# Altium footprint library CeleronLib_Connect.PcbLib: 219 footprints (part 13 of 14)
Each footprint in its own frame and in the unit in brackets; x right, y up, seen from the top. Pads: shape width x height; smd on the part's side, far side on the other; paste and mask are expansions set on the pad; w line width, h text height; cw(c..) or ccw(c..) is an arc to the next point about the centre after c.
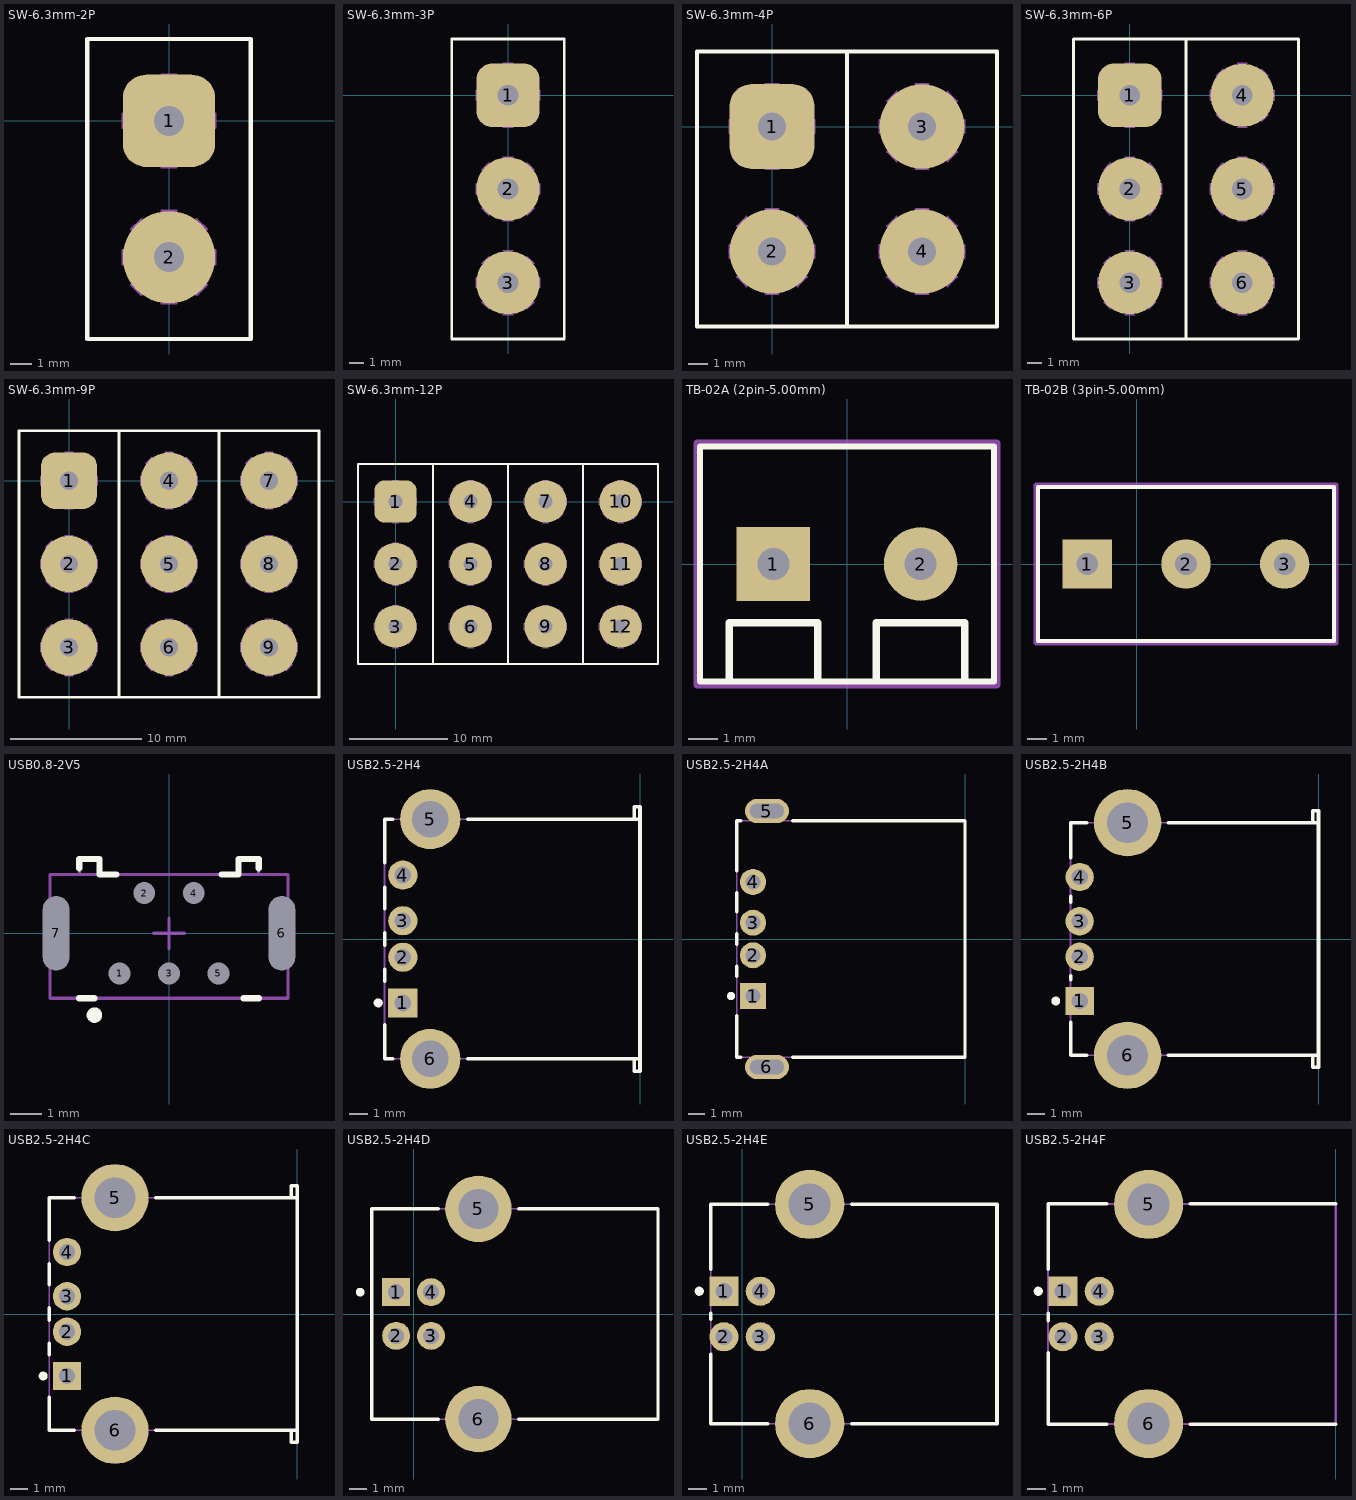
[diagram p12: the footprints below, top view; thin cyan lines are the x and y axes]

## SW-6.3mm-2P [mm] "2.8mm FASTON Tab For PC Board (1.4mm hole)"
height 8.6
pads (2):
  rrect50% 4.3x4.3 hole 1.4 mask-0.7: 1(0,0)
  round 4.3 hole 1.4 mask-0.7: 2(0,-6.35)
Top Overlay:
  lines w0.2: -3.81,-10.16 3.81,-10.16 3.81,3.81 -3.81,3.81 -3.81,-10.16
Top Assy:
  lines w0.1: -1.767,-1.286 -1.286,-1.767 ; -1.767,-7.636 -1.286,-8.117 ; -1.767,-5.064 -1.286,-4.582 ; -1.767,1.286 -1.286,1.767 ; -0.34,-8.509 0.34,-8.509 ; -0.34,-4.191 0.34,-4.191 ; -0.34,-2.159 0.34,-2.159 ; -0.34,2.159 0.34,2.159 ; 1.286,-8.117 1.767,-7.636 ; 1.286,-4.583 1.767,-5.064 ; 1.286,-1.767 1.767,-1.286 ; 1.286,1.767 1.767,1.286 ; -2.159,-6.69 2.159,-6.69 2.159,-6.009 -2.159,-6.009 -2.159,-6.69 ; -2.159,-0.34 -2.159,0.34 2.159,0.34 2.159,-0.34 -2.159,-0.34
3D body: height 8.64, standoff -3.81, extent -2.159,-6.69 2.159,-6.01
3D body: height 8.64, standoff -3.81, extent -2.159,-0.34 2.159,0.34

## SW-6.3mm-3P [mm] "2.8mm FASTON Tab For PC Board (1.4mm hole)"
height 8.6
pads (3):
  rrect50% 4.3x4.3 hole 1.4 mask-0.7: 1(0,0)
  round 4.3 hole 1.4 mask-0.7: 2(0,-6.35) 3(0,-12.7)
Top Overlay:
  lines w0.2: -3.81,-16.51 3.81,-16.51 3.81,3.81 -3.81,3.81 -3.81,-16.51
Top Assy:
  lines w0.1: -1.767,-13.986 -1.286,-14.467 ; -1.767,-1.286 -1.286,-1.767 ; -1.767,-11.414 -1.286,-10.933 ; -1.767,-7.636 -1.286,-8.117 ; -1.767,-5.064 -1.286,-4.582 ; -1.767,1.286 -1.286,1.767 ; -0.34,-14.859 0.34,-14.859 ; -0.34,-10.541 0.34,-10.541 ; -0.34,-8.509 0.34,-8.509 ; -0.34,-4.191 0.34,-4.191 ; -0.34,-2.159 0.34,-2.159 ; -0.34,2.159 0.34,2.159 ; 1.286,-14.467 1.767,-13.986 ; 1.286,-10.933 1.767,-11.414 ; 1.286,-8.117 1.767,-7.636 ; 1.286,-4.583 1.767,-5.064 ; 1.286,-1.767 1.767,-1.286 ; 1.286,1.767 1.767,1.286 ; -2.159,-13.04 -2.159,-12.36 2.159,-12.36 2.159,-13.04 -2.159,-13.04 ; -2.159,-6.69 2.159,-6.69 2.159,-6.009 -2.159,-6.009 -2.159,-6.69 ; -2.159,-0.34 -2.159,0.34 2.159,0.34 2.159,-0.34 -2.159,-0.34
3D body: height 8.64, standoff -3.81, extent -2.159,-6.69 2.159,-6.01
3D body: height 8.64, standoff -3.81, extent -2.159,-0.34 2.159,0.34
3D body: height 8.64, standoff -3.81, extent -2.159,-13.04 2.159,-12.36

## SW-6.3mm-4P [mm] "2.8mm FASTON Tab For PC Board (1.4mm hole)"
height 8.6
pads (4):
  rrect50% 4.3x4.3 hole 1.4 mask-0.7: 1(0,0)
  round 4.3 hole 1.4 mask-0.7: 2(0,-6.35) 3(7.62,0) 4(7.62,-6.35)
Top Overlay:
  lines w0.2: 3.81,-10.16 3.81,3.81 ; -3.81,-10.16 -3.81,3.81 11.43,3.81 11.43,-10.16 -3.81,-10.16
Top Assy:
  lines w0.1: -1.767,-1.286 -1.286,-1.767 ; -1.767,-7.636 -1.286,-8.117 ; -1.767,-5.064 -1.286,-4.582 ; -1.767,1.286 -1.286,1.767 ; -0.34,-8.509 0.34,-8.509 ; -0.34,-4.191 0.34,-4.191 ; -0.34,-2.159 0.34,-2.159 ; -0.34,2.159 0.34,2.159 ; 1.286,-8.117 1.767,-7.636 ; 1.286,-4.583 1.767,-5.064 ; 1.286,-1.767 1.767,-1.286 ; 1.286,1.767 1.767,1.286 ; 5.853,-1.286 6.334,-1.767 ; 5.853,-7.636 6.334,-8.117 ; 5.853,-5.064 6.334,-4.583 ; 5.853,1.286 6.334,1.767 ; 7.28,-8.509 7.96,-8.509 ; 7.28,-4.191 7.96,-4.191 ; 7.28,-2.159 7.96,-2.159 ; 7.28,2.159 7.96,2.159 ; 8.906,-8.117 9.387,-7.636 ; 8.906,-4.583 9.387,-5.064 ; 8.906,-1.767 9.387,-1.286 ; 8.906,1.767 9.387,1.286 ; -2.159,-6.69 2.159,-6.69 2.159,-6.009 -2.159,-6.009 -2.159,-6.69 ; -2.159,-0.34 -2.159,0.34 2.159,0.34 2.159,-0.34 -2.159,-0.34 ; 5.461,-6.69 9.779,-6.69 9.779,-6.009 5.461,-6.009 5.461,-6.69 ; 5.461,-0.34 5.461,0.34 9.779,0.34 9.779,-0.34 5.461,-0.34
3D body: height 8.64, standoff -3.81, extent -2.159,-6.69 2.159,-6.01
3D body: height 8.64, standoff -3.81, extent -2.159,-0.34 2.159,0.34
3D body: height 8.64, standoff -3.81, extent 5.461,-0.34 9.779,0.34
3D body: height 8.64, standoff -3.81, extent 5.461,-6.69 9.779,-6.01

## SW-6.3mm-6P [mm] "2.8mm FASTON Tab For PC Board (1.4mm hole)"
height 8.6
pads (6):
  rrect50% 4.3x4.3 hole 1.4 mask-0.7: 1(0,0)
  round 4.3 hole 1.4 mask-0.7: 2(0,-6.35) 3(0,-12.7) 4(7.62,0) 5(7.62,-6.35) 6(7.62,-12.7)
Top Overlay:
  lines w0.2: 3.81,-16.51 3.81,3.81 ; -3.81,-16.51 -3.81,3.81 11.43,3.81 11.43,-16.51 -3.81,-16.51
Top Assy:
  lines w0.1: -1.767,-13.986 -1.286,-14.467 ; -1.767,-1.286 -1.286,-1.767 ; -1.767,-11.414 -1.286,-10.933 ; -1.767,-7.636 -1.286,-8.117 ; -1.767,-5.064 -1.286,-4.582 ; -1.767,1.286 -1.286,1.767 ; -0.34,-14.859 0.34,-14.859 ; -0.34,-10.541 0.34,-10.541 ; -0.34,-8.509 0.34,-8.509 ; -0.34,-4.191 0.34,-4.191 ; -0.34,-2.159 0.34,-2.159 ; -0.34,2.159 0.34,2.159 ; 1.286,-14.467 1.767,-13.986 ; 1.286,-10.933 1.767,-11.414 ; 1.286,-8.117 1.767,-7.636 ; 1.286,-4.583 1.767,-5.064 ; 1.286,-1.767 1.767,-1.286 ; 1.286,1.767 1.767,1.286 ; 5.853,-13.986 6.334,-14.467 ; 5.853,-7.636 6.334,-8.117 ; 5.853,-11.414 6.334,-10.933 ; 5.853,-5.064 6.334,-4.583 ; 5.853,-1.286 6.334,-1.767 ; 5.853,1.286 6.334,1.767 ; 7.28,-14.859 7.96,-14.859 ; 7.28,-10.541 7.96,-10.541 ; 7.28,-8.509 7.96,-8.509 ; 7.28,-4.191 7.96,-4.191 ; 7.28,-2.159 7.961,-2.159 ; 7.28,2.159 7.961,2.159 ; 8.906,-14.467 9.387,-13.986 ; 8.906,-10.933 9.387,-11.414 ; 8.906,-8.117 9.387,-7.636 ; 8.906,-4.583 9.387,-5.064 ; 8.906,-1.767 9.387,-1.286 ; 8.906,1.767 9.388,1.286 ; -2.159,-13.04 2.159,-13.04 2.159,-12.36 -2.159,-12.36 -2.159,-13.04 ; -2.159,-6.69 -2.159,-6.009 2.159,-6.009 2.159,-6.69 -2.159,-6.69 ; -2.159,-0.34 2.159,-0.34 2.159,0.34 -2.159,0.34 -2.159,-0.34 ; 5.461,-13.04 9.779,-13.04 9.779,-12.36 5.461,-12.36 5.461,-13.04 ; 5.461,-6.69 9.779,-6.69 9.779,-6.01 5.461,-6.01 5.461,-6.69 ; 5.461,-0.34 5.461,0.341 9.779,0.341 9.779,-0.34 5.461,-0.34
3D body: height 8.64, standoff -3.81, extent 5.461,-13.04 9.779,-12.36
3D body: height 8.64, standoff -3.81, extent 5.461,-6.69 9.779,-6.01
3D body: height 8.64, standoff -3.81, extent 5.461,-0.34 9.779,0.34
3D body: height 8.64, standoff -3.81, extent -2.159,-13.04 2.159,-12.36
3D body: height 8.64, standoff -3.81, extent -2.159,-0.34 2.159,0.34
3D body: height 8.64, standoff -3.81, extent -2.159,-6.69 2.159,-6.01

## SW-6.3mm-9P [mm] "2.8mm FASTON Tab For PC Board (1.4mm hole)"
height 8.6
pads (9):
  rrect50% 4.3x4.3 hole 1.4 mask-0.7: 1(0,0)
  round 4.3 hole 1.4 mask-0.7: 2(0,-6.35) 3(0,-12.7) 4(7.62,0) 5(7.62,-6.35) 6(7.62,-12.7) 7(15.24,0) 8(15.24,-6.35) 9(15.24,-12.7)
Top Overlay:
  lines w0.2: 3.81,-16.51 3.81,3.81 ; 11.43,-16.51 11.43,3.81 ; -3.81,-16.51 19.05,-16.51 19.05,3.81 -3.81,3.81 -3.81,-16.51
Top Assy:
  lines w0.1: -1.767,-13.986 -1.286,-14.467 ; -1.767,-1.286 -1.286,-1.767 ; -1.767,-11.414 -1.286,-10.933 ; -1.767,-7.636 -1.286,-8.117 ; -1.767,-5.064 -1.286,-4.582 ; -1.767,1.286 -1.286,1.767 ; -0.34,-14.859 0.34,-14.859 ; -0.34,-10.541 0.34,-10.541 ; -0.34,-8.509 0.34,-8.509 ; -0.34,-4.191 0.34,-4.191 ; -0.34,-2.159 0.34,-2.159 ; -0.34,2.159 0.34,2.159 ; 1.286,-14.467 1.767,-13.986 ; 1.286,-10.933 1.767,-11.414 ; 1.286,-8.117 1.767,-7.636 ; 1.286,-4.583 1.767,-5.064 ; 1.286,-1.767 1.767,-1.286 ; 1.286,1.767 1.767,1.286 ; 5.853,-13.986 6.334,-14.467 ; 5.853,-7.636 6.334,-8.117 ; 5.853,-11.414 6.334,-10.933 ; 5.853,-5.064 6.334,-4.583 ; 5.853,-1.286 6.334,-1.767 ; 5.853,1.286 6.334,1.767 ; 7.28,-14.859 7.96,-14.859 ; 7.28,-10.541 7.96,-10.541 ; 7.28,-8.509 7.96,-8.509 ; 7.28,-4.191 7.96,-4.191 ; 7.28,-2.159 7.961,-2.159 ; 7.28,2.159 7.961,2.159 ; 8.906,-14.467 9.387,-13.986 ; 8.906,-10.933 9.387,-11.414 ; 8.906,-8.117 9.387,-7.636 ; 8.906,-4.583 9.387,-5.064 ; 8.906,-1.767 9.387,-1.286 ; 8.906,1.767 9.388,1.286 ; 13.473,-13.986 13.954,-14.467 ; 13.473,-11.414 13.954,-10.933 ; 13.473,-7.636 13.954,-8.117 ; 13.473,-5.064 13.954,-4.583 ; 13.473,-1.286 13.955,-1.767 ; 13.473,1.286 13.954,1.767 ; 14.9,-14.859 15.581,-14.859 ; 14.9,-10.541 15.581,-10.541 ; 14.9,-8.509 15.581,-8.509 ; 14.9,-4.191 15.581,-4.191 ; 14.9,-2.159 15.581,-2.159 ; 14.9,2.159 15.581,2.159 ; 16.526,-14.467 17.007,-13.986 ; 16.526,-10.933 17.008,-11.414 ; 16.526,-8.117 17.007,-7.636 ; 16.526,-4.583 17.008,-5.064 ; 16.527,-1.767 17.008,-1.286 ; 16.526,1.767 17.008,1.286 ; -2.159,-13.04 2.159,-13.04 2.159,-12.36 -2.159,-12.36 -2.159,-13.04 ; -2.159,-6.69 -2.159,-6.009 2.159,-6.009 2.159,-6.69 -2.159,-6.69 ; -2.159,-0.34 2.159,-0.34 2.159,0.34 -2.159,0.34 -2.159,-0.34 ; 5.461,-13.04 9.779,-13.04 9.779,-12.36 5.461,-12.36 5.461,-13.04 ; 5.461,-6.69 9.779,-6.69 9.779,-6.01 5.461,-6.01 5.461,-6.69 ; 5.461,-0.34 5.461,0.341 9.779,0.341 9.779,-0.34 5.461,-0.34 ; 13.081,-13.04 13.081,-12.359 17.399,-12.359 17.399,-13.04 13.081,-13.04 ; 13.081,-6.69 13.081,-6.009 17.399,-6.009 17.399,-6.69 13.081,-6.69 ; 13.082,-0.34 17.4,-0.34 17.4,0.341 13.082,0.341 13.082,-0.34
3D body: height 8.64, standoff -3.81, extent 5.461,-13.04 9.779,-12.36
3D body: height 8.64, standoff -3.81, extent 5.461,-6.69 9.779,-6.01
3D body: height 8.64, standoff -3.81, extent 5.461,-0.34 9.779,0.34
3D body: height 8.64, standoff -3.81, extent -2.159,-13.04 2.159,-12.36
3D body: height 8.64, standoff -3.81, extent -2.159,-0.34 2.159,0.34
3D body: height 8.64, standoff -3.81, extent -2.159,-6.69 2.159,-6.01
3D body: height 8.64, standoff -3.81, extent 13.081,-0.34 17.399,0.341
3D body: height 8.64, standoff -3.81, extent 13.081,-6.69 17.399,-6.01
3D body: height 8.64, standoff -3.81, extent 13.081,-13.04 17.399,-12.36

## SW-6.3mm-12P [mm] "2.8mm FASTON Tab For PC Board (1.4mm hole)"
height 8.6
pads (12):
  rrect50% 4.3x4.3 hole 1.4 mask-0.7: 1(0,0)
  round 4.3 hole 1.4 mask-0.7: 2(0,-6.35) 3(0,-12.7) 4(7.62,0) 5(7.62,-6.35) 6(7.62,-12.7) 7(15.24,0) 8(15.24,-6.35) 9(15.24,-12.7) 10(22.86,0) 11(22.86,-6.35) 12(22.86,-12.7)
Top Overlay:
  lines w0.2: 3.81,-16.51 3.81,3.81 ; 11.43,-16.51 11.43,3.81 ; 19.05,-16.51 19.05,3.81 ; -3.81,-16.51 -3.81,3.81 26.67,3.81 26.67,-16.51 -3.81,-16.51
Top Assy:
  lines w0.1: -1.767,-13.986 -1.286,-14.467 ; -1.767,-1.286 -1.286,-1.767 ; -1.767,-11.414 -1.286,-10.933 ; -1.767,-7.636 -1.286,-8.117 ; -1.767,-5.064 -1.286,-4.582 ; -1.767,1.286 -1.286,1.767 ; -0.34,-14.859 0.34,-14.859 ; -0.34,-10.541 0.34,-10.541 ; -0.34,-8.509 0.34,-8.509 ; -0.34,-4.191 0.34,-4.191 ; -0.34,-2.159 0.34,-2.159 ; -0.34,2.159 0.34,2.159 ; 1.286,-14.467 1.767,-13.986 ; 1.286,-10.933 1.767,-11.414 ; 1.286,-8.117 1.767,-7.636 ; 1.286,-4.583 1.767,-5.064 ; 1.286,-1.767 1.767,-1.286 ; 1.286,1.767 1.767,1.286 ; 5.853,-13.986 6.334,-14.467 ; 5.853,-7.636 6.334,-8.117 ; 5.853,-11.414 6.334,-10.933 ; 5.853,-5.064 6.334,-4.583 ; 5.853,-1.286 6.334,-1.767 ; 5.853,1.286 6.334,1.767 ; 7.28,-14.859 7.96,-14.859 ; 7.28,-10.541 7.96,-10.541 ; 7.28,-8.509 7.96,-8.509 ; 7.28,-4.191 7.96,-4.191 ; 7.28,-2.159 7.961,-2.159 ; 7.28,2.159 7.961,2.159 ; 8.906,-14.467 9.387,-13.986 ; 8.906,-10.933 9.387,-11.414 ; 8.906,-8.117 9.387,-7.636 ; 8.906,-4.583 9.387,-5.064 ; 8.906,-1.767 9.387,-1.286 ; 8.906,1.767 9.388,1.286 ; 13.473,-13.986 13.954,-14.467 ; 13.473,-11.414 13.954,-10.933 ; 13.473,-7.636 13.954,-8.117 ; 13.473,-5.064 13.954,-4.583 ; 13.473,-1.286 13.955,-1.767 ; 13.473,1.286 13.954,1.767 ; 14.9,-14.859 15.581,-14.859 ; 14.9,-10.541 15.581,-10.541 ; 14.9,-8.509 15.581,-8.509 ; 14.9,-4.191 15.581,-4.191 ; 14.9,-2.159 15.581,-2.159 ; 14.9,2.159 15.581,2.159 ; 16.526,-14.467 17.007,-13.986 ; 16.526,-10.933 17.008,-11.414 ; 16.526,-8.117 17.007,-7.636 ; 16.526,-4.583 17.008,-5.064 ; 16.527,-1.767 17.008,-1.286 ; 16.526,1.767 17.008,1.286 ; 21.093,-13.986 21.574,-14.467 ; 21.093,-11.414 21.574,-10.933 ; 21.093,-7.636 21.574,-8.117 ; 21.093,-5.064 21.574,-4.583 ; 21.093,-1.286 21.574,-1.767 ; 21.093,1.286 21.574,1.767 ; 22.52,-14.859 23.2,-14.859 ; 22.52,-10.541 23.2,-10.541 ; 22.52,-8.509 23.2,-8.509 ; 22.52,-4.191 23.2,-4.191 ; 22.52,-2.159 23.201,-2.159 ; 22.52,2.159 23.201,2.159 ; 24.146,-14.467 24.627,-13.986 ; 24.146,-10.933 24.627,-11.414 ; 24.146,-8.117 24.627,-7.636 ; 24.146,-4.583 24.627,-5.064 ; 24.146,-1.767 24.628,-1.286 ; 24.146,1.767 24.628,1.286 ; -2.159,-13.04 -2.159,-12.36 2.159,-12.36 2.159,-13.04 -2.159,-13.04 ; -2.159,-6.69 2.159,-6.69 2.159,-6.009 -2.159,-6.009 -2.159,-6.69 ; -2.159,-0.34 -2.159,0.34 2.159,0.34 2.159,-0.34 -2.159,-0.34 ; 5.461,-13.04 5.461,-12.36 9.779,-12.36 9.779,-13.04 5.461,-13.04 ; 5.461,-6.69 5.461,-6.01 9.779,-6.01 9.779,-6.69 5.461,-6.69 ; 5.461,-0.34 9.779,-0.34 9.779,0.341 5.461,0.341 5.461,-0.34 ; 13.081,-13.04 17.399,-13.04 17.399,-12.359 13.081,-12.359 13.081,-13.04 ; 13.081,-6.69 17.399,-6.69 17.399,-6.009 13.081,-6.009 13.081,-6.69 ; 13.082,-0.34 13.082,0.341 17.4,0.341 17.4,-0.34 13.082,-0.34 ; 20.701,-13.04 20.701,-12.359 25.019,-12.359 25.019,-13.04 20.701,-13.04 ; 20.701,-6.69 20.701,-6.009 25.019,-6.009 25.019,-6.69 20.701,-6.69 ; 20.702,-0.34 25.02,-0.34 25.02,0.341 20.702,0.341 20.702,-0.34
3D body: height 8.64, standoff -3.81, extent 13.081,-13.04 17.399,-12.36
3D body: height 8.64, standoff -3.81, extent 13.081,-6.69 17.399,-6.01
3D body: height 8.64, standoff -3.81, extent 13.081,-0.34 17.399,0.341
3D body: height 8.64, standoff -3.81, extent -2.159,-6.69 2.159,-6.01
3D body: height 8.64, standoff -3.81, extent -2.159,-0.34 2.159,0.34
3D body: height 8.64, standoff -3.81, extent -2.159,-13.04 2.159,-12.36
3D body: height 8.64, standoff -3.81, extent 5.461,-0.34 9.779,0.34
3D body: height 8.64, standoff -3.81, extent 5.461,-6.69 9.779,-6.01
3D body: height 8.64, standoff -3.81, extent 5.461,-13.04 9.779,-12.36
3D body: height 8.64, standoff -3.81, extent 20.701,-0.34 25.019,0.341
3D body: height 8.64, standoff -3.81, extent 20.701,-6.69 25.019,-6.01
3D body: height 8.64, standoff -3.81, extent 20.701,-13.04 25.019,-12.36

## TB-02A (2pin-5.00mm) [mm] "Клеммник короткий, шаг 5.00мм http://www.brownbear.ru/goods/2869.html"
pads (2):
  rect 2.5x2.5 hole 1.1: 1(-2.5,0)
  round 2.5 hole 1.1: 2(2.5,0)
Top Overlay:
  lines w0.2: -5,-4 5,-4 5,4 -5,4 -5,-4
  lines w0.254: -4,-3.95 -4,-2 -1,-2 -1,-3.95 ; 1,-3.95 1,-2 4,-2 4,-3.95
Top Courtyard:
  lines w0.254: -5.1,-4.1 5.1,-4.1 5.1,4.1 -5.1,4.1 -5.1,-4.1
3D body: height 10.05, standoff -3.45, extent -5,-4.05 5,4.05

## TB-02B (3pin-5.00mm) [mm] "Клеммник короткий, шаг 5.00мм  http://www.brownbear.ru/goods/2869.html"
pads (3):
  rect 2.5x2.5 hole 1.1: 1(-2.5,0)
  round 2.5 hole 1.1: 2(2.5,0) 3(7.5,0)
Top Overlay:
  lines w0.2: -5,-3.9 10,-3.9 10,3.9 -1.9,3.9 -5,3.9 -5,-3.9
Top Courtyard:
  lines w0.254: -5.1,-4 10.1,-4 10.1,4 -5.1,4 -5.1,-4
3D body: height 10.05, standoff -3.95, extent -5,-3.5 10,4

## USB0.8-2V5 [mm] "Connector; USB Mini-B, Type 2, Thru-Hole; 5 Position; Vertical"
height 7.7
pads (7):
  round 0.4 / inner round 0.4 / far side oval 1.1x1.7 hole 0.7: 1(-1.6,-1.3) 2(-0.8,1.3) 3(0,-1.3) 4(0.8,1.3) 5(1.6,-1.3)
  oval 0.55x2.1 / inner oval 0.55x2.1 / far side oval 1.6x3.9 hole 0.85 slot 2.4 at 90 deg: 6(3.65,0) 7(-3.65,0)
Top Overlay:
  circle w0.25: c-2.41,-2.645 r0.125
  lines w0.2: -2.91,-2.1 -2.41,-2.1 ; -2.9,2.1 -2.9,2.4 -2.25,2.4 -2.25,1.9 -1.7,1.9 ; 1.7,1.9 2.25,1.9 2.25,2.4 2.9,2.4 2.9,2.1 ; 2.41,-2.1 2.91,-2.1
Top 3D:
  lines w0.1: -2.9,1.9 -2.9,2.4 -2.25,2.4 -2.25,1.9 ; 2.25,1.9 2.25,2.4 2.9,2.4 2.9,1.9 ; -3.85,-2.1 3.85,-2.1 3.85,1.9 -3.85,1.9 -3.85,-2.1
Top Courtyard:
  lines w0.1: -0.5,0 0.5,0 ; 0,-0.5 0,0.5
3D body: height 7.7, standoff 0, extent -3.849,-2.099 3.849,1.899
3D body: height 7.7, standoff 0, extent 2.251,1.901 2.899,2.399
3D body: height 7.7, standoff 0, extent -2.899,1.901 -2.251,2.399

## USB2.5-2H4 [mm] "Connector; USB1.1, Series A, Reverse Type, Thru-Hole; 4 Position; Right Angle"
height 6.5
pads (6):
  rect 1.6x1.6 hole 0.92: 1(-13,-3.5)
  round 1.6 hole 0.92: 2(-13,-1) 3(-13,1) 4(-13,3.5)
  round 3.3 hole 2: 5(-11.5,6.57) 6(-11.5,-6.57)
Top Overlay:
  circle w0.25: c-14.35,-3.5 r0.125
  lines w0.2: -14,-4.7 -14,-6.565 -13.55,-6.565 ; -14,-2.3 -14,-1.67 ; -14,-0.33 -14,0.33 ; -14,1.67 -14,2.83 ; -14,4.17 -14,6.565 -13.55,6.565 ; -9.45,-6.565 0,-6.565 ; -9.45,6.565 0,6.565 ; -0.32,-6.565 -0.32,-7.25 0,-7.25 0,7.25 -0.32,7.25 -0.32,6.565
Remarks:
  lines w0.1: 0,-7.25 0,7.25
  text "PCB Edge" at -0.336,-6.303 h0.25
Top 3D:
  lines w0.1: -14,-6.565 -14,6.565 -0.32,6.565 -0.32,7.25 0,7.25 0,-7.25 -0.32,-7.25 -0.32,-6.565 -14,-6.565
3D body: height 6.5, standoff 0, extent -13.999,-7.249 -0.001,7.249

## USB2.5-2H4A [mm] "Connector; USB1.1, Series A, Reverse Type, Thru-Hole; 4 Position; Right Angle"
height 6.5
pads (6):
  rect 1.6x1.6 hole 0.92: 1(-13,-3.5)
  round 1.6 hole 0.92: 2(-13,-1) 3(-13,1) 4(-13,3.5)
  oval 2.7x1.5 hole 0.9 slot 2.1 at 0 deg: 5(-12.15,7.85) 6(-12.15,-7.85)
Top Overlay:
  circle w0.25: c-14.35,-3.5 r0.125
  lines w0.2: -14,-4.7 -14,-7.25 -13.74,-7.25 ; -14,-2.3 -14,-1.67 ; -14,-0.33 -14,0.33 ; -14,1.67 -14,2.83 ; -14,4.17 -14,7.25 -13.74,7.25 ; -10.56,-7.25 0,-7.25 0,7.25 -10.56,7.25
Remarks:
  lines w0.1: 0,-7.25 0,7.25
  text "PCB Edge" at -0.324,-6.966 h0.25
Top 3D:
  lines w0.1: -14,-7.25 0,-7.25 0,7.25 -14,7.25 -14,-7.25
3D body: height 6.5, standoff 0, extent -14,-7.25 0,7.25

## USB2.5-2H4B [mm] "Connector; USB1.1, Type A, Thru-Hole; 4 Position; Right Angle"
height 7.01
pads (6):
  rect 1.6x1.6 hole 0.92: 1(-13.49,-3.5)
  round 1.6 hole 0.92: 2(-13.49,-1) 3(-13.49,1) 4(-13.49,3.5)
  round 3.8 hole 2.3: 5(-10.78,6.57) 6(-10.78,-6.57)
Top Overlay:
  circle w0.25: c-14.84,-3.5 r0.125
  lines w0.2: -14,-4.7 -14,-6.565 -13.08,-6.565 ; -14,-2.3 -14,-2.09 ; -14,2.09 -14,2.41 ; -14,4.59 -14,6.565 -13.08,6.565 ; -8.48,-6.565 0,-6.565 ; -8.48,6.565 0,6.565 ; -0.32,-6.565 -0.32,-7.25 0,-7.25 0,-6.565 ; -0.32,6.565 -0.32,7.25 0,7.25 0,6.565 ; 0,-6.565 0,6.565
Top 3D:
  lines w0.1: -14,-6.565 -0.32,-6.565 -0.32,-7.25 0,-7.25 0,7.25 -0.32,7.25 -0.32,6.565 -14,6.565 -14,-6.565
3D body: height 7.01, standoff 0, extent -13.999,-7.249 -0.001,7.249

## USB2.5-2H4C [mm] "Connector; USB1.1, Type A, Thru-Hole; 4 Position; Right Angle"
height 7.01
pads (6):
  rect 1.6x1.6 hole 0.92: 1(-12.99,-3.5)
  round 1.6 hole 0.92: 2(-12.99,-1) 3(-12.99,1) 4(-12.99,3.5)
  round 3.8 hole 2.3: 5(-10.28,6.57) 6(-10.28,-6.57)
Top Overlay:
  circle w0.25: c-14.34,-3.5 r0.125
  lines w0.2: -14,-4.7 -14,-6.565 -12.58,-6.565 ; -14,-2.3 -14,-1.66 ; -14,-0.34 -14,0.34 ; -14,1.66 -14,2.84 ; -14,4.16 -14,6.565 -12.58,6.565 ; -7.98,-6.565 0,-6.565 ; -7.98,6.565 0,6.565 ; -0.32,-6.565 -0.32,-7.25 0,-7.25 0,-6.565 ; -0.32,6.565 -0.32,7.25 0,7.25 0,6.565 ; 0,-6.565 0,6.565
Top 3D:
  lines w0.1: -14,-6.565 -0.32,-6.565 -0.32,-7.25 0,-7.25 0,7.25 -0.32,7.25 -0.32,6.565 -14,6.565 -14,-6.565
3D body: height 7.01, standoff 0, extent -13.999,-7.249 -0.001,7.249

## USB2.5-2H4D [mm] "Connector; USB1.1, Type B, Thru-Hole; 4 Position; Right Angle"
height 11.1
pads (6):
  rect 1.6x1.6 hole 0.92: 1(-1,1.25)
  round 1.6 hole 0.92: 2(-1,-1.25) 3(1,-1.25) 4(1,1.25)
  round 3.8 hole 2.3: 5(3.71,6.02) 6(3.71,-6.02)
Top Overlay:
  circle w0.25: c-3.06,1.25 r0.125
  lines w0.2: 1.41,-6.02 -2.41,-6.02 -2.41,6.02 1.41,6.02 ; 6.01,-6.02 13.99,-6.02 13.99,6.02 6.01,6.02
Top 3D:
  lines w0.1: -2.41,-6.02 13.99,-6.02 13.99,6.02 -2.41,6.02 -2.41,-6.02
3D body: height 11.1, standoff 0, extent -2.41,-6.02 13.99,6.02

## USB2.5-2H4E [mm] "Connector; USB1.1, Type B, Thru-Hole; 4 Position; Right Angle"
height 11.5
pads (6):
  rect 1.6x1.6 hole 0.92: 1(-1,1.25)
  round 1.6 hole 0.92: 2(-1,-1.25) 3(1,-1.25) 4(1,1.25)
  round 3.8 hole 2.3: 5(3.71,6.02) 6(3.71,-6.02)
Top Overlay:
  circle w0.25: c-2.35,1.25 r0.125
  lines w0.2: -1.72,-2.21 -1.72,-6.02 1.41,-6.02 ; -1.72,-0.29 -1.72,0.05 ; -1.72,2.45 -1.72,6.02 1.41,6.02 ; 6.01,-6.02 13.99,-6.02 13.99,6.02 6.01,6.02
Top 3D:
  lines w0.1: -1.72,-6.02 13.99,-6.02 13.99,6.02 -1.72,6.02 -1.72,-6.02
3D body: height 11.5, standoff 0, extent -1.72,-6.02 13.99,6.02

## USB2.5-2H4F [mm] "Connector; USB1.1, Type B, Thru-Hole; 4 Position; Right Angle"
height 10.95
pads (6):
  rect 1.6x1.6 hole 0.92: 1(-15.01,1.25)
  round 1.6 hole 0.92: 2(-15.01,-1.25) 3(-13.01,-1.25) 4(-13.01,1.25)
  round 3.8 hole 2.3: 5(-10.3,6.02) 6(-10.3,-6.02)
Top Overlay:
  circle w0.25: c-16.36,1.25 r0.125
  lines w0.2: -15.82,-2.14 -15.82,-6.05 -12.6,-6.05 ; -15.82,-0.36 -15.82,0.05 ; -15.82,2.45 -15.82,6.05 -12.6,6.05 ; -8,-6.05 -0.02,-6.05 ; -8,6.05 -0.02,6.05
Remarks:
  lines w0.1: 0,-6.05 0,6.05
  text "PCB Edge" at -0.325,-5.651 h0.25
Top 3D:
  lines w0.1: -15.82,-6.05 -15.82,6.05 -0.02,6.05 -0.02,-6.05 -15.82,-6.05
3D body: height 10.95, standoff 0, extent -15.82,-6.05 -0.02,6.05